# Altium footprint library Battery Reader.PcbLib: 23 footprints (part 1 of 2)
Each footprint in its own frame and in the unit in brackets; x right, y up, seen from the top. Pads: shape width x height; smd on the part's side, far side on the other; paste and mask are expansions set on the pad; w line width, h text height; cw(c..) or ccw(c..) is an arc to the next point about the centre after c.
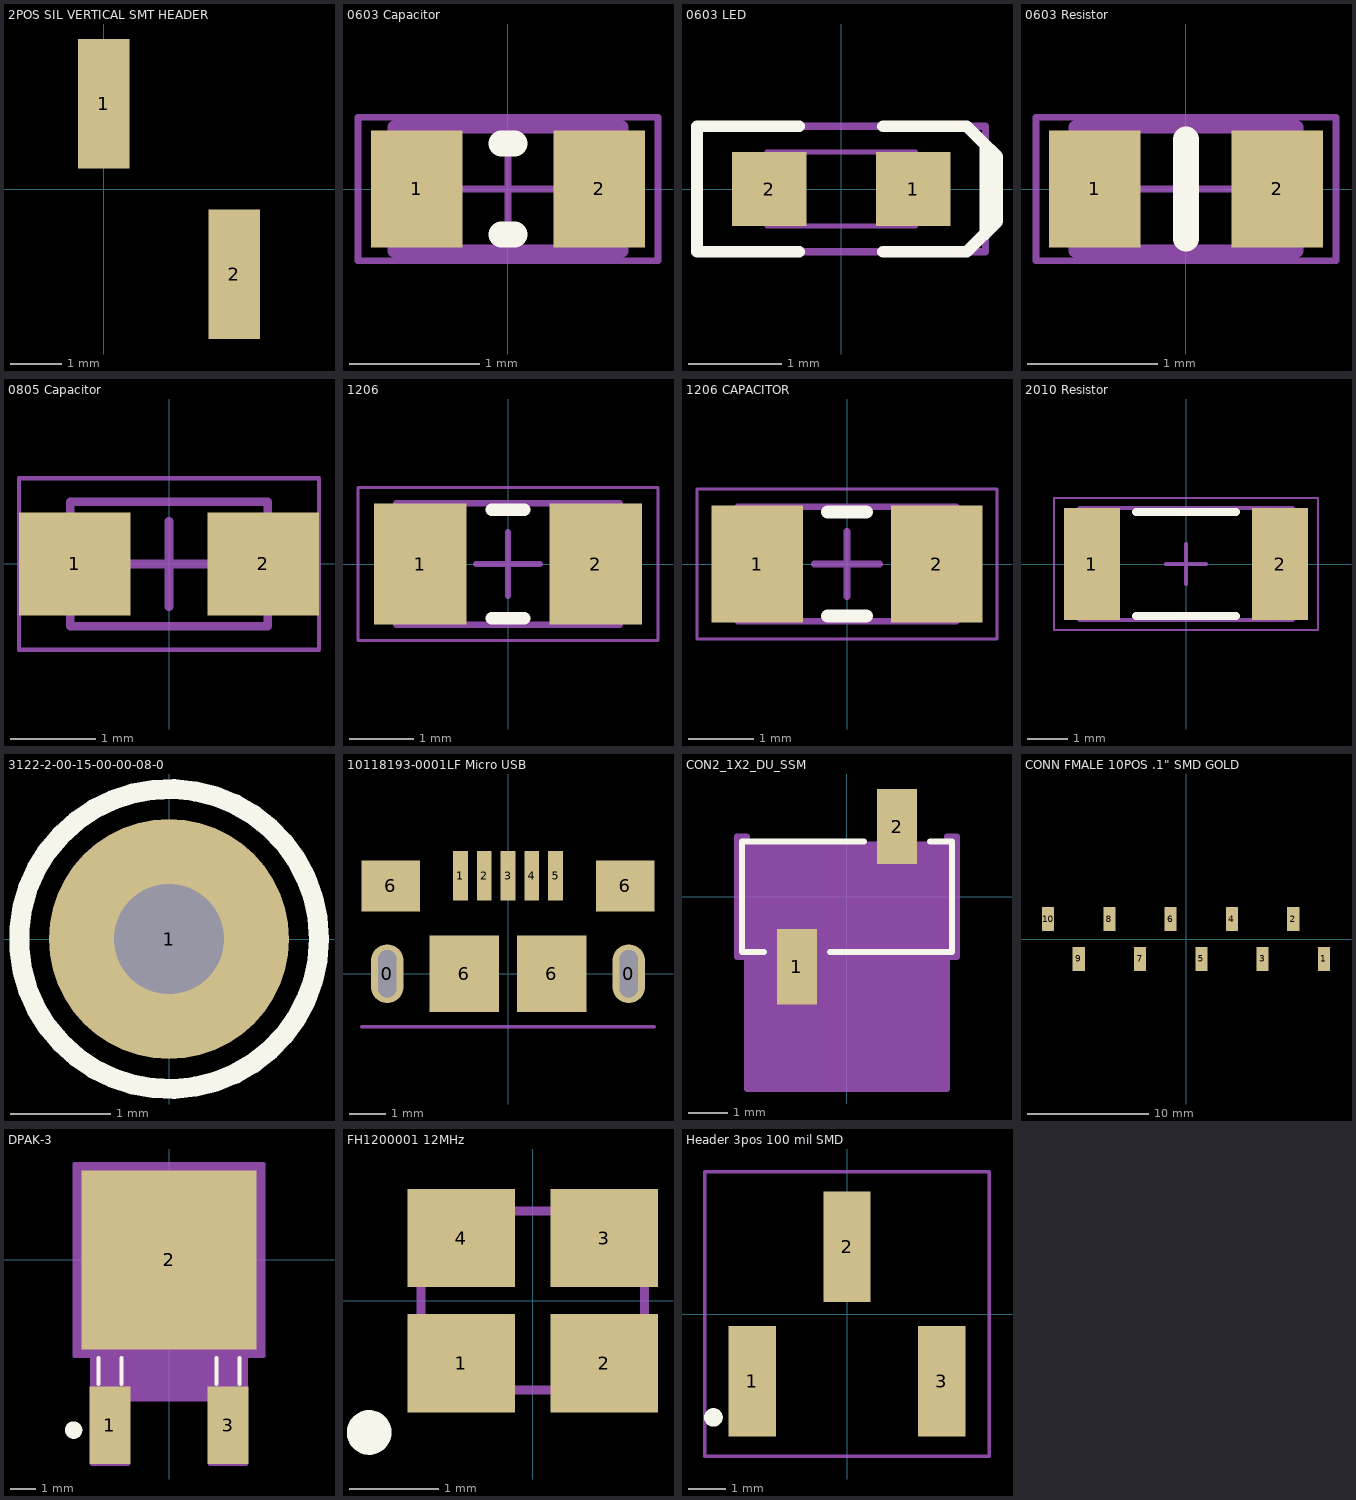
[diagram p0: the footprints below, top view; thin cyan lines are the x and y axes]

## 2POS SIL VERTICAL SMT HEADER [mm] "2POS SIL VERTICAL SMT HEADER"
pads (2):
  rect 1x2.51 smd: 1(0,1.655) 2(2.54,-1.655)
3D body "m20-8770246_asm.stp": height 10, standoff 0.07, extent -1.28,-2.54 3.8,2.54

## 0603 Capacitor [mm] "Chip Capacitor, Body 1.6x0.8mm, Height 0.55mm, IPC High Density"
height 0.55
pads (2):
  rect 0.7x0.9 smd: 1(-0.7,0) 2(0.7,0)
Top Overlay:
  lines w0.2: -0.05,-0.35 0.05,-0.35 ; -0.05,0.35 0.05,0.35
Mechanical 13:
  lines w0.1: -0.875,-0.475 -0.875,0.475 0.875,0.475 0.875,-0.475 -0.875,-0.475
Mechanical 15:
  lines w0.05: -0.475,0 0.475,0 ; 0,-0.475 0,0.475 ; -1.15,-0.55 -1.15,0.55 1.15,0.55 1.15,-0.55 -1.15,-0.55
3D body "cap_0603_lowprofile.step": height 0.6, standoff 0, extent -0.8,-0.4 0.8,0.4

## 0603 LED [mm]
height 0.8
pads (2):
  rect 0.8x0.8 smd: 1(0.775,0) 2(-0.775,0)
Top Overlay:
  lines w0.127: -0.45,-0.675 -1.55,-0.675 -1.55,0.675 -0.45,0.675 ; 0.45,-0.675 1.35,-0.675 1.55,-0.475 1.55,0.475 1.35,0.675 0.45,0.675 ; 1.5,0.525 1.675,0.35 1.675,-0.35 1.525,-0.5
Mechanical 13:
  lines w0.05: -0.6,-0.4 -0.6,0.399 0.6,0.4 0.6,-0.4 -0.6,-0.399 ; -0.505,-0.398 -0.505,0.398 ; -0.5,-0.4 -0.8,-0.4 -0.8,0.4 -0.5,0.4 ; 0.5,-0.4 0.8,-0.4 0.8,0.4 0.5,0.4 ; 0.505,-0.398 0.505,0.398 ; -0.599,-0.398 -0.599,0.398 0.599,0.398 0.599,-0.398 -0.599,-0.398
Mechanical 15:
  lines w0.076: -1.55,-0.675 -1.55,0.675 1.55,0.675 1.55,-0.675 -1.55,-0.675
3D body "LED 0603 APT1608 RED.STEP": height 0.75, standoff 0, extent -0.8,-0.4 0.8,0.4

## 0603 Resistor [mm] "Chip Resistor, Body 1.6x0.8mm, IPC High Density"
height 0.6
pads (2):
  rect 0.7x0.9 smd: 1(-0.7,0) 2(0.7,0)
Top Overlay:
  lines w0.2: 0,-0.381 0,0.381
Mechanical 13:
  lines w0.1: -0.85,-0.475 0.85,-0.475 0.85,0.475 -0.85,0.475 -0.85,-0.475
Mechanical 15:
  lines w0.05: -0.475,0 0.475,0 ; 0,-0.475 0,0.475 ; -1.15,-0.55 1.15,-0.55 1.15,0.55 -1.15,0.55 -1.15,-0.55
3D body "0603 SMD resistor.step": height 0.41, standoff 0.01, extent -0.8,-0.4 0.8,0.4

## 0805 Capacitor [mm] "Chip Inductor, 2-Leads, Body 2,10x1,25mm, IPC Medium Density"
height 1.45
pads (2):
  rect 1.3x1.2 smd: 1(-1.1,0) 2(1.1,0)
Mechanical 13:
  lines w0.1: -1.15,-0.725 1.15,-0.725 1.15,0.725 -1.15,0.725 -1.15,-0.725
Mechanical 15:
  lines w0.05: -1.75,-1 1.75,-1 1.75,1 -1.75,1 -1.75,-1
  lines w0.1: -0.5,0 0.5,0 ; 0,-0.5 0,0.5
3D body "0805 Chip Inductor.step": height 1.45, standoff 0, extent -1.15,-0.725 1.15,0.725

## 1206 [mm] "1206"
height 1.6
pads (2):
  rect 1.45x1.9 smd: 1(-1.375,0) 2(1.375,0)
Top Overlay:
  lines w0.2: -0.25,-0.85 0.25,-0.85 ; -0.25,0.85 0.25,0.85
Mechanical 15:
  lines w0.05: -2.35,-1.2 -2.35,1.2 2.35,1.2 2.35,-1.2 -2.35,-1.2
  lines w0.1: -0.5,0 0.5,0 ; 0,-0.5 0,0.5 ; -1.75,-0.95 -1.75,0.95 1.75,0.95 1.75,-0.95 -1.75,-0.95
3D body: height 1.6, standoff 0, extent -1.2,-0.95 1.2,0.95
3D body: height 1.6, standoff 0, extent -1.75,-0.95 -1.2,0.95
3D body: height 1.6, standoff 0, extent 1.2,-0.95 1.75,0.95

## 1206 CAPACITOR [mm]
height 1.8
pads (2):
  rect 1.4x1.8 smd: 1(-1.375,0) 2(1.375,0)
Top Overlay:
  lines w0.2: -0.3,-0.8 0.3,-0.8 ; -0.3,0.8 0.3,0.8
Mechanical 15:
  lines w0.05: -2.3,-1.15 -2.3,1.15 2.3,1.15 2.3,-1.15 -2.3,-1.15
  lines w0.1: -0.5,0 0.5,0 ; 0,-0.5 0,0.5 ; -1.675,-0.875 -1.675,0.875 1.675,0.875 1.675,-0.875 -1.675,-0.875
3D body "1206 CAPACITOR.step": height 1.8, standoff 0, extent -1.675,-0.875 1.675,0.875

## 2010 Resistor [mm] "Chip Resistor, 2-Leads, Body 5,08x2,54mm, IPC Medium Density"
height 0.89
pads (2):
  rect 1.4x2.8 smd: 1(-2.35,0) 2(2.35,0)
Top Overlay:
  lines w0.2: -1.25,-1.3 1.25,-1.3 ; -1.25,1.3 1.25,1.3
Mechanical 15:
  lines w0.05: -3.3,-1.65 3.3,-1.65 3.3,1.65 -3.3,1.65 -3.3,-1.65
  lines w0.1: -0.5,0 0.5,0 ; 0,-0.5 0,0.5 ; -2.665,-1.395 2.665,-1.395 2.665,1.395 -2.665,1.395 -2.665,-1.395
3D body "2010 Resistor.step": height 0.89, standoff 0, extent -2.665,-1.395 2.665,1.395

## 3122-2-00-15-00-00-08-0 [mm] "Mill-Max 3122-2-00-15-00-00-08-0"
pads (1):
  round 2.4 hole 1.1: 1(0,0)
Top Overlay:
  circle w0.2: c0,0 r1.5
Top Paste:
  circle w1.25: c0,0 r0.632
Bottom Paste:
  circle w1.25: c0,0 r0.632
3D body "mill-max-3122-2-00-15-00-00-08-0.STEP": height 7.62, standoff -2.08, extent -0.879,-0.899 0.899,0.879

## 10118193-0001LF Micro USB [mm] "10118193-0001LF Micro USB"
height 2
pads (11):
  oval 0.9x1.6 hole 0.5 slot 1.3 at 90 deg: 0(-3.3,0) 0(3.3,0)
  rect 0.4x1.35 smd: 1(-1.3,2.675) 2(-0.65,2.675) 3(0,2.675) 4(0.65,2.675) 5(1.3,2.675)
  rect 1.6x1.4 smd: 6(-3.2,2.4) 6(3.2,2.4)
  rect 1.9x2.1 smd: 6(-1.2,0) 6(1.2,0)
Mechanical 15:
  lines w0.1: -4,-1.45 4,-1.45
3D body "10118193-0001lfc.stp": height 2.78, standoff -0.82, extent -3.929,-2.66 3.928,3

## CON2_1X2_DU_SSM [mil]
pads (2):
  rect 40x75 smd paste+0 mask+0: 1(-50,-70) 2(50,70)
Top Overlay:
  lines w6: -83.1,-55 -105,-55 -105,55 16.9,55 ; -16.9,-55 105,-55 105,55 83.1,55
Mechanical 13:
  circle w0: c-50,-70 r10
  lines w1: -100,-50 -100,50 100,50 100,-50 -100,-50
Mechanical 15:
  region: 110,60 100,60 100,52 -100,52 -100,60 -110,60 -110,-60 -100,-60 -100,-192 100,-192 100,-60 110,-60
  lines w6: -110,-60 -100,-60 -100,-192 100,-192 100,-60 110,-60 110,60 100,60 100,52 -100,52 -100,60 -110,60 -110,-60
3D body: height 10, standoff 0, extent 0,-70 10,-60
3D body "SSM-102-L-SV.stp": height 297.87, standoff 2.87, extent -97.64,-93.07 102.36,86.93

## CONN FMALE 10POS .1" SMD GOLD [mm] "CONN FMALE 10POS .1\" SMD GOLD"
pads (10):
  rect 1x2 smd: 1(11.43,-1.65) 2(8.89,1.65) 3(6.35,-1.65) 4(3.81,1.65) 5(1.27,-1.65) 6(-1.27,1.65) 7(-3.81,-1.65) 8(-6.35,1.65) 9(-8.89,-1.65) 10(-11.43,1.65)
3D body: height 10.6, standoff 8, extent -18.05,-25.8 18.1,1.8
3D body "_ _ _C101KFXC-RC.STEP": height 7.6, standoff 0.1, extent -12.73,-2.2 12.67,2.1

## DPAK-3 [mm]
pads (3):
  rect 1.6x3 smd paste+0 mask+0: 1(-2.29,-6.413) 3(2.29,-6.413)
  rect 6.782x6.934 smd paste+0 mask+0: 2(0,0)
Top Overlay:
  circle w0.5: c-3.7,-6.6 r0.086
  lines w0.152: -2.735,-4.813 -2.735,-3.8 ; -1.846,-4.813 -1.846,-3.8 ; 1.846,-4.813 1.846,-3.8 ; 2.735,-4.813 2.735,-3.8
Mechanical 13:
  lines w0.025: -0.419,-3.111 -0.419,-3.95 0.419,-3.95 0.419,-3.111 ; -3.365,-3.111 3.365,-3.111 3.365,3.111 -3.365,3.111 -3.365,-3.111 ; -2.735,-7.302 -2.735,-3.111 -1.846,-3.111 -1.846,-7.302 -2.735,-7.302 ; 1.846,-7.302 1.846,-3.111 2.735,-3.111 2.735,-7.302 1.846,-7.302
  text "*" at -2.608,-3.492 h1.27
Mechanical 15:
  region: -2.989,-3.721 -3.67,-3.721 -3.67,3.721 3.67,3.721 3.67,-3.721 2.989,-3.721 2.989,-7.912 1.592,-7.912 1.592,-5.423 -1.592,-5.423 -1.592,-7.912 -2.989,-7.912
  lines w0.152: -3.67,-3.721 -3.67,3.721 3.67,3.721 3.67,-3.721 2.989,-3.721 2.989,-7.912 1.592,-7.912 1.592,-5.423 -1.592,-5.423 -1.592,-7.912 -2.989,-7.912 -2.989,-3.721 -3.67,-3.721
3D body: height 0.25, standoff 0, extent 0,0 0.254,0.254
3D body "DPAK-3.step": height 1.7, standoff -0.05, extent -3.493,-5.842 3.239,2.225

## EADOGS104W-A [mm] "4X10 DOG CHARACTERDISPLAY"
3D body: height 6, standoff 2.6, extent -18,-13.8 18.1,13.8

## FH1200001 12MHz [mm]
height 0.7
pads (4):
  rect 1.2x1.1 smd: 1(-0.8,-0.7) 2(0.8,-0.7) 3(0.8,0.7) 4(-0.8,0.7)
Top Overlay:
  circle w0.25: c-1.829,-1.473 r0.125
Mechanical 15:
  lines w0.1: -1.25,-1 0,-1 1.25,-1 1.25,1 0,1 -1.25,1 -1.25,-1
3D body: height 0.7, standoff 0, extent -1.25,-1 1.25,1

## Header 3pos 100 mil SMD [mm]
pads (3):
  rect 1.27x2.96 smd: 1(-2.54,-1.8) 2(0,1.8) 3(2.54,-1.8)
Top Overlay:
  circle w0.25: c-3.58,-2.771 r0.125
Mechanical 15:
  lines w0.1: -3.81,-3.81 3.81,-3.81 3.81,3.81 -3.81,3.81 -3.81,-3.81
3D body "878980306.stp": height 9.63, standoff -0.02, extent -3.81,-2.4 3.81,2.4